# EAGLE library part MOLEX_0781710006 (library molex-pico-ezmate)
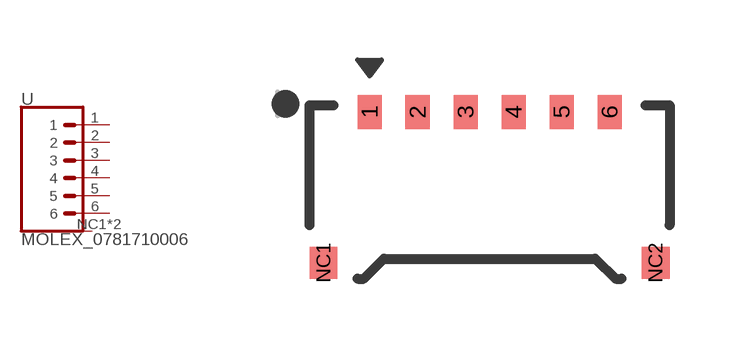
[diagram p1: symbol with the pads of MOLEX_781710006; footprint MOLEX_781710006]

Designator prefix -

## MOLEX_0781710006  [MOLEX_781710006]
1  1  pwr
2  2  pas
3  3  pas
4  4  pwr
5  5  pwr
6  6  pwr
NC1  M
NC2  M

## Footprint MOLEX_781710006 (pad centres in mm)
smd 0.6 x 0.85: 1 -3,2; 2 -1.8,2; 3 -0.6,2; 4 0.6,2; 5 1.8,2; 6 3,2
smd 0.7 x 0.8: NC1 -4.15,-1.775; NC2 4.15,-1.775